# Altium schematic symbol library Schlib1.SchLib: 3 symbols
Pins are listed as number, name and electrical type; pins without a type are passive.

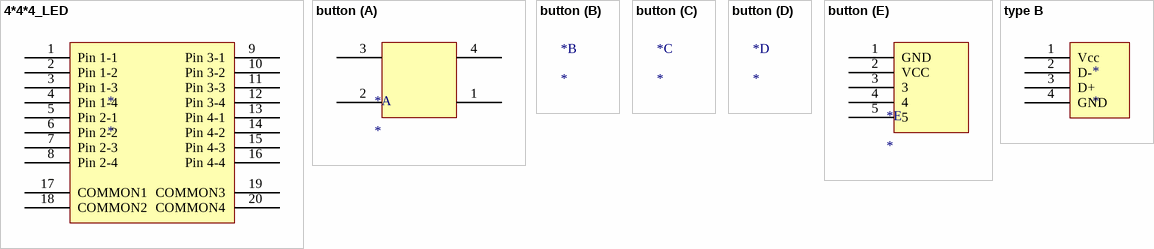
[diagram p0: symbols 4*4*4_LED to type B]

## 4*4*4_LED
designator *
footprint PCBComponent_1
pins: 1 Pin 1-1, 2 Pin 1-2, 3 Pin 1-3, 4 Pin 1-4, 5 Pin 2-1, 6 Pin 2-2, 7 Pin 2-3, 8 Pin 2-4, 9 Pin 3-1, 10 Pin 3-2, 11 Pin 3-3, 12 Pin 3-4, 13 Pin 4-1, 14 Pin 4-2, 15 Pin 4-3, 16 Pin 4-4, 17 COMMON1, 18 COMMON2, 19 COMMON3, 20 COMMON4

## button
designator *
part A pins: 1, 2, 3, 4
part E pins: 1 GND, 2 VCC, 3, 4, 5

## type B
designator *
footprint type b; pin to pad 1>3 2>1 3>2
pins: 1 Vcc, 2 D-, 3 D+, 4 GND